# EAGLE library part 610X2021121 (library Eagle_BOARD-TO-BOARD_CONNECTORS (rev18b))
WR-PHD 2.54mm Dual SMT Pin Header, 20 Pins =>Code : Con_BTB_PHD_2.54_2_610x2021121(packageing:x = 0: Tube x = 3: Tape & Reel with Cap; 300 pcs/Reel) <http://katalog.we-online.de/media/images/eican/Con_BTB_PHD_2.54_2_6100xx21121_pf2.jpg> 6100xx21121 Details see: http://katalog.we-online.de/en/em/610_0xx_211_21 6103xx21121 Details see: http://katalog.we-online.de/en/em/PHD_2_54_SMT_DUAL_PIN_HEADER_REEL_6103XX21121 2014 (C) Würth Elektronik
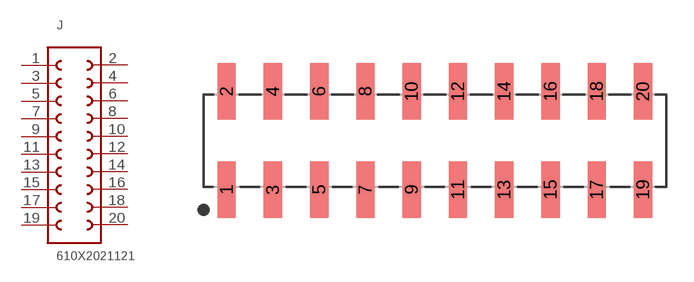
[diagram p80: symbol with the pads of 610X2021121; footprint 610X2021121]

Designator prefix J

## 610X2021121  [610X2021121]
1  1  pas
2  20  pas
3  2  pas
4  19  pas
5  3  pas
6  18  pas
7  4  pas
8  17  pas
9  5  pas
10  16  pas
11  6  pas
12  15  pas
13  7  pas
14  14  pas
15  8  pas
16  13  pas
17  9  pas
18  12  pas
19  10  pas
20  11  pas

## Footprint 610X2021121 (pad centres in mm)
WR-PHD 2.54mm Dual SMT Pin Header, 20 Pins
smd 1 x 3.1: 1 -11.43,-2.7; 2 -11.43,2.7; 3 -8.89,-2.7; 4 -8.89,2.7; 5 -6.35,-2.7; 6 -6.35,2.7; 7 -3.81,-2.7; 8 -3.81,2.7; 9 -1.27,-2.7; 10 -1.27,2.7; 11 1.27,-2.7; 12 1.27,2.7; 13 3.81,-2.7; 14 3.81,2.7; 15 6.35,-2.7; 16 6.35,2.7; 17 8.89,-2.7; 18 8.89,2.7; 19 11.43,-2.7; 20 11.43,2.7